# Altium schematic symbol library Bison-Board.SchLib: 70 symbols
Pins are listed as number, name and electrical type; pins without a type are passive.

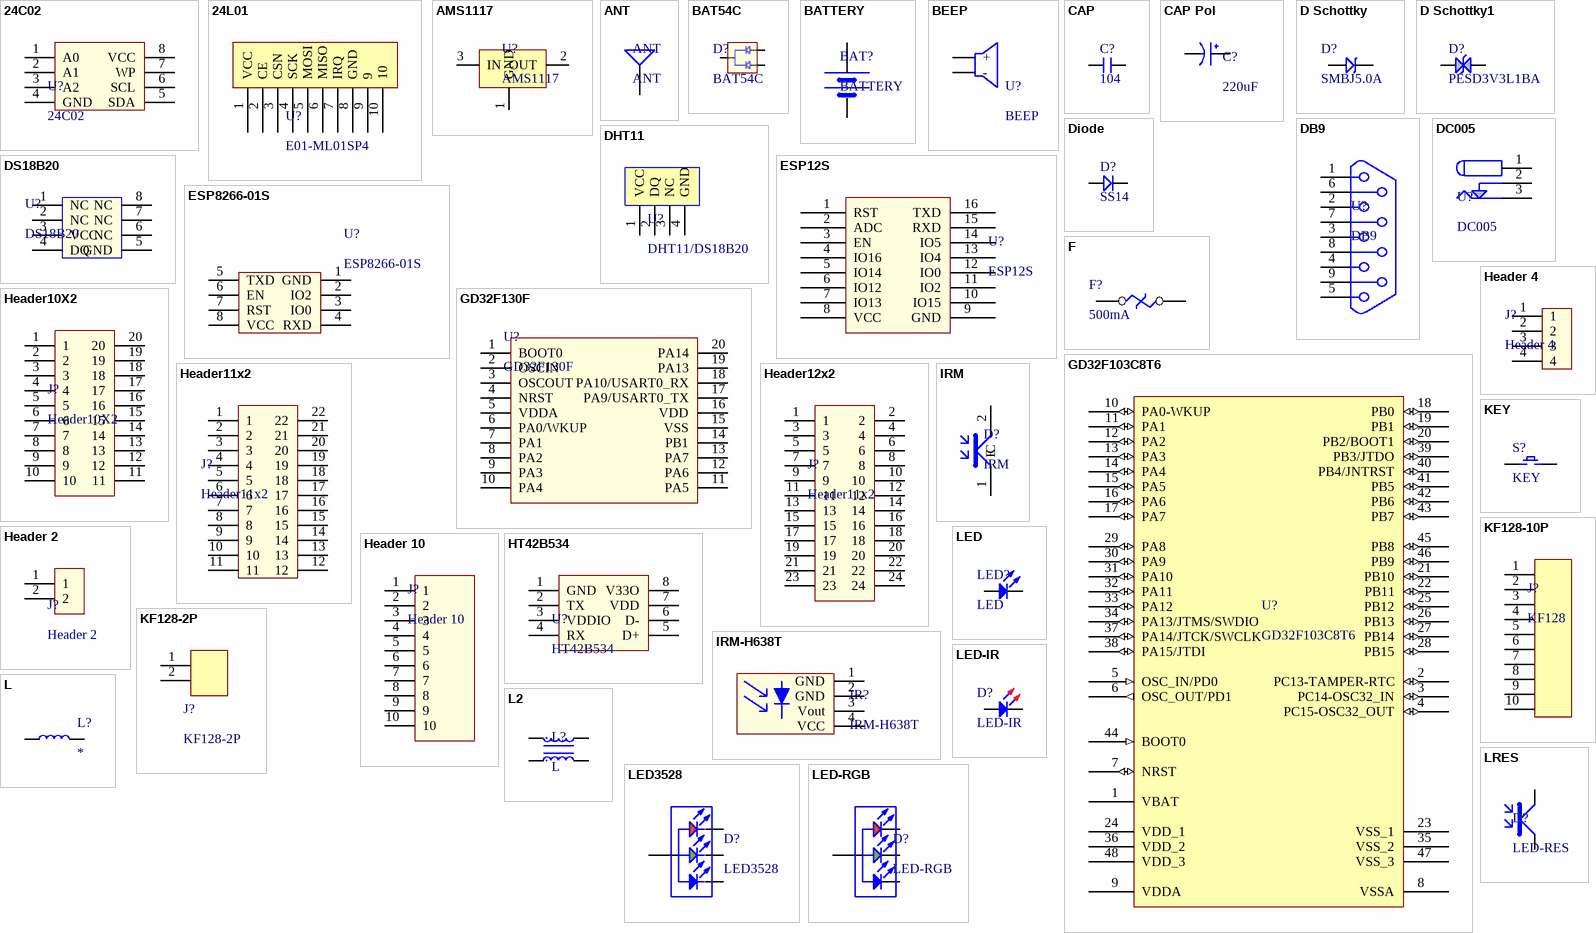
[diagram p0: symbols 24C02 to LRES]

## 24C02
designator U?
footprint SOP8
pins: 1 A0, 2 A1, 3 A2, 4 GND, 5 SDA, 6 SCL, 7 WP, 8 VCC

## 24L01
designator U?, comment E01-ML01SP4
2.4G无限模块
footprint E01-ML01SP4 (贴片24L01模块)
pins: 1 VCC, 2 CE, 3 CSN, 4 SCK, 5 MOSI, 6 MISO, 7 IRQ, 8 GND, 9, 10

## AMS1117
designator U?
LDO
footprint SOT223
pins: 1 GND, 2 OUT, 3 IN

## ANT
designator ANT
footprint ANT IPEX
footprint ANT-SMA-KE
footprint ANT-SMA-FR (SMA天线座90度)
pins: 1

## BAT54C
designator D?
footprint SOT23-3
pins: 1, 2, 3

## BATTERY
designator BAT?
footprint SBAT-1220
pins: 1 VCC, 2 GND

## BEEP
designator U?
footprint MLT-5020 (贴片蜂鸣器)
pins: 1 +, 2 -

## CAP
designator C?, comment 104
footprint C 0402
footprint C 0603
footprint C 0805
footprint C 1206
pins: 1, 2

## CAP Pol
designator C?, comment 220uF
极性电容
footprint CS 3.5*8*11.5 - C (脚距3.5mm , 直径8mm , 高11.5mm)
pins: 1 +, 2 -

## D Schottky
designator D?, comment SMBJ5.0A
footprint SMA
pins: 1, 2

## D Schottky1
designator D?, comment PESD3V3L1BA
双向TVS
footprint SOD323
pins: 1, 2

## DB9
designator U?
footprint DB9-MALE (DB9公头)
pins: 1, 2, 3, 4, 5, 6, 7, 8, 9

## DC005
designator U?
footprint DC005 (DC005座子)
pins: 1, 2, 3

## DHT11
designator U?, comment DHT11/DS18B20
footprint DHT11 (DHT11和DS18B20公用)
pins: 1 VCC, 2 DQ, 3 NC, 4 GND

## Diode
designator D?, comment SS14
footprint SMA
footprint SOD123
footprint SOD323
footprint LL34
pins: 1, 2

## DS18B20
designator U?
footprint SOP8
pins: 1 NC, 2 NC, 3 VCC, 4 DQ, 5 GND, 6 NC, 7 NC, 8 NC

## ESP12S
designator U?
WIFI模块
footprint ESP12S
pins: 1 RST, 2 ADC, 3 EN, 4 IO16, 5 IO14, 6 IO12, 7 IO13, 8 VCC, 9 GND, 10 IO15, 11 IO2, 12 IO0, 13 IO4, 14 IO5, 15 RXD, 16 TXD

## ESP8266-01S
designator U?
WIFI模块
footprint ESP8266-01S (WIFI模块)
pins: 1 GND, 2 IO2, 3 IO0, 4 RXD, 5 TXD, 6 EN, 7 RST, 8 VCC

## F
designator F?, comment 500mA
熔断开关
footprint F 0402
footprint F 0603
footprint F 0805
footprint F 1206
footprint F 1210
footprint F 1812
pins: 1, 2

## GD32F103C8T6
designator U?
footprint LQFP48 (7X7mm 0.5脚距)
pins: 1 VBAT (power), 2 PC13-TAMPER-RTC (io), 3 PC14-OSC32_IN (io), 4 PC15-OSC32_OUT (io), 5 OSC_IN/PD0 (in), 6 OSC_OUT/PD1 (out), 7 NRST (io), 8 VSSA (power), 9 VDDA (power), 10 PA0-WKUP (io), 11 PA1 (io), 12 PA2 (io), 13 PA3 (io), 14 PA4 (io), 15 PA5 (io), 16 PA6 (io), 17 PA7 (io), 18 PB0 (io), 19 PB1 (io), 20 PB2/BOOT1 (io), 21 PB10 (io), 22 PB11 (io), 23 VSS_1 (power), 24 VDD_1 (power), 25 PB12 (io), 26 PB13 (io), 27 PB14 (io), 28 PB15 (io), 29 PA8 (io), 30 PA9 (io), 31 PA10 (io), 32 PA11 (io), 33 PA12 (io), 34 PA13/JTMS/SWDIO (io), 35 VSS_2 (power), 36 VDD_2 (power), 37 PA14/JTCK/SWCLK (io), 38 PA15/JTDI (io), 39 PB3/JTDO (io), 40 PB4/JNTRST (io), 41 PB5 (io), 42 PB6 (io), 43 PB7 (io), 44 BOOT0 (in), 45 PB8 (io), 46 PB9 (io), 47 VSS_3 (power), 48 VDD_3 (power)

## GD32F130F
designator U?
footprint TSSOP20
pins: 1 BOOT0, 2 OSCIN, 3 OSCOUT, 4 NRST, 5 VDDA, 6 PA0/WKUP, 7 PA1, 8 PA2, 9 PA3, 10 PA4, 11 PA5, 12 PA6, 13 PA7, 14 PB1, 15 VSS, 16 VDD, 17 PA9/USART0_TX, 18 PA10/USART0_RX, 19 PA13, 20 PA14

## Header10X2
designator J?
footprint HDR2.54-M-LS-2x10P (2.54排母贴片)
footprint HDR2.54-LI-2x10P
pins: 1, 2, 3, 4, 5, 6, 7, 8, 9, 10, 11, 12, 13, 14, 15, 16, 17, 18, 19, 20

## Header11x2
designator J?
footprint HDR2.54-M-LS-2x10P - duplicate (2.54排母贴片)
pins: 1, 2, 3, 4, 5, 6, 7, 8, 9, 10, 11, 12, 13, 14, 15, 16, 17, 18, 19, 20, 21, 22

## Header12x2
designator J?, comment Header11x2
footprint HDR2.54-M-LS-2x12P
pins: 1, 2, 3, 4, 5, 6, 7, 8, 9, 10, 11, 12, 13, 14, 15, 16, 17, 18, 19, 20, 21, 22, 23, 24

## Header 2
designator J?
footprint XH2.54-WS-2P
footprint XH2.54-LI-2P
pins: 1, 2

## Header 4
designator J?
footprint XH2.54-LS-4P
footprint XH2.54-WS-4P
footprint XH2.54-LI-4P
pins: 1, 2, 3, 4

## Header 10
designator J?
footprint HEADER 10 (2.54mm 排针)
pins: 1, 2, 3, 4, 5, 6, 7, 8, 9, 10

## HT42B534
designator U?
USB转串口
footprint SOP8
pins: 1 GND, 2 TX, 3 VDDIO, 4 RX, 5 D+, 6 D-, 7 VDD, 8 V33O

## IRM
designator D?
红外接收管
footprint 3528-IR (3528-2P封装的红外接收管)
pins: 1 E, 2 C

## IRM-H638T
designator IR?
footprint IRM-H638T (红外接收)
pins: 1 GND, 2 GND, 3 Vout, 4 VCC

## KEY
designator S?
footprint KEY SMD-3*6*2.5
footprint DSW4.5*4.5 (贴片按键)
footprint KEY TSW SMD-6*6*6
footprint KEY-TC-153 (轻触开关 6x6x6 贴片)
pins: 1, 2

## KF128-2P
designator J?
footprint KF128-5.08-2P (螺钉式接线端子，脚距5.08mm)
pins: 1, 2

## KF128-10P
designator J?, comment KF128
footprint KF128-5.08-10P (螺钉式接线端子，脚距5.08mm)
pins: 1, 2, 3, 4, 5, 6, 7, 8, 9, 10

## L
designator L?
footprint L_SMNR3015
footprint L 0402
footprint L 0603
footprint L 0805
footprint L 1206
footprint L_SMNR4030
footprint L CDRH74 (贴片电感)
pins: 1, 2

## L2
designator L?, comment L
footprint L UU9.8 (共模电感17*12*17mm(长宽高）)
pins: 1, 2, 3, 4

## LED
designator LED?
footprint LED0603
footprint LED 3MM
pins: 1 A, 2 K

## LED3528
designator D?
footprint LED3528-4PIN
pins: 1 R, 2 +, 3 B, 4 G

## LED-IR
designator D?
footprint LED-IR (5mm红外发射二极管直插改侧贴)
footprint IR12-21C (侧贴红外发射管1206)
pins: 1 A, 2 K

## LED-RGB
designator D?
footprint LED-RGB (直插封装改侧贴式焊接)
pins: 1 COM, 2 R, 3 G, 4 B

## LRES
designator D?, comment LED-RES
光敏传感器
footprint LED 0805
pins: 1, 2

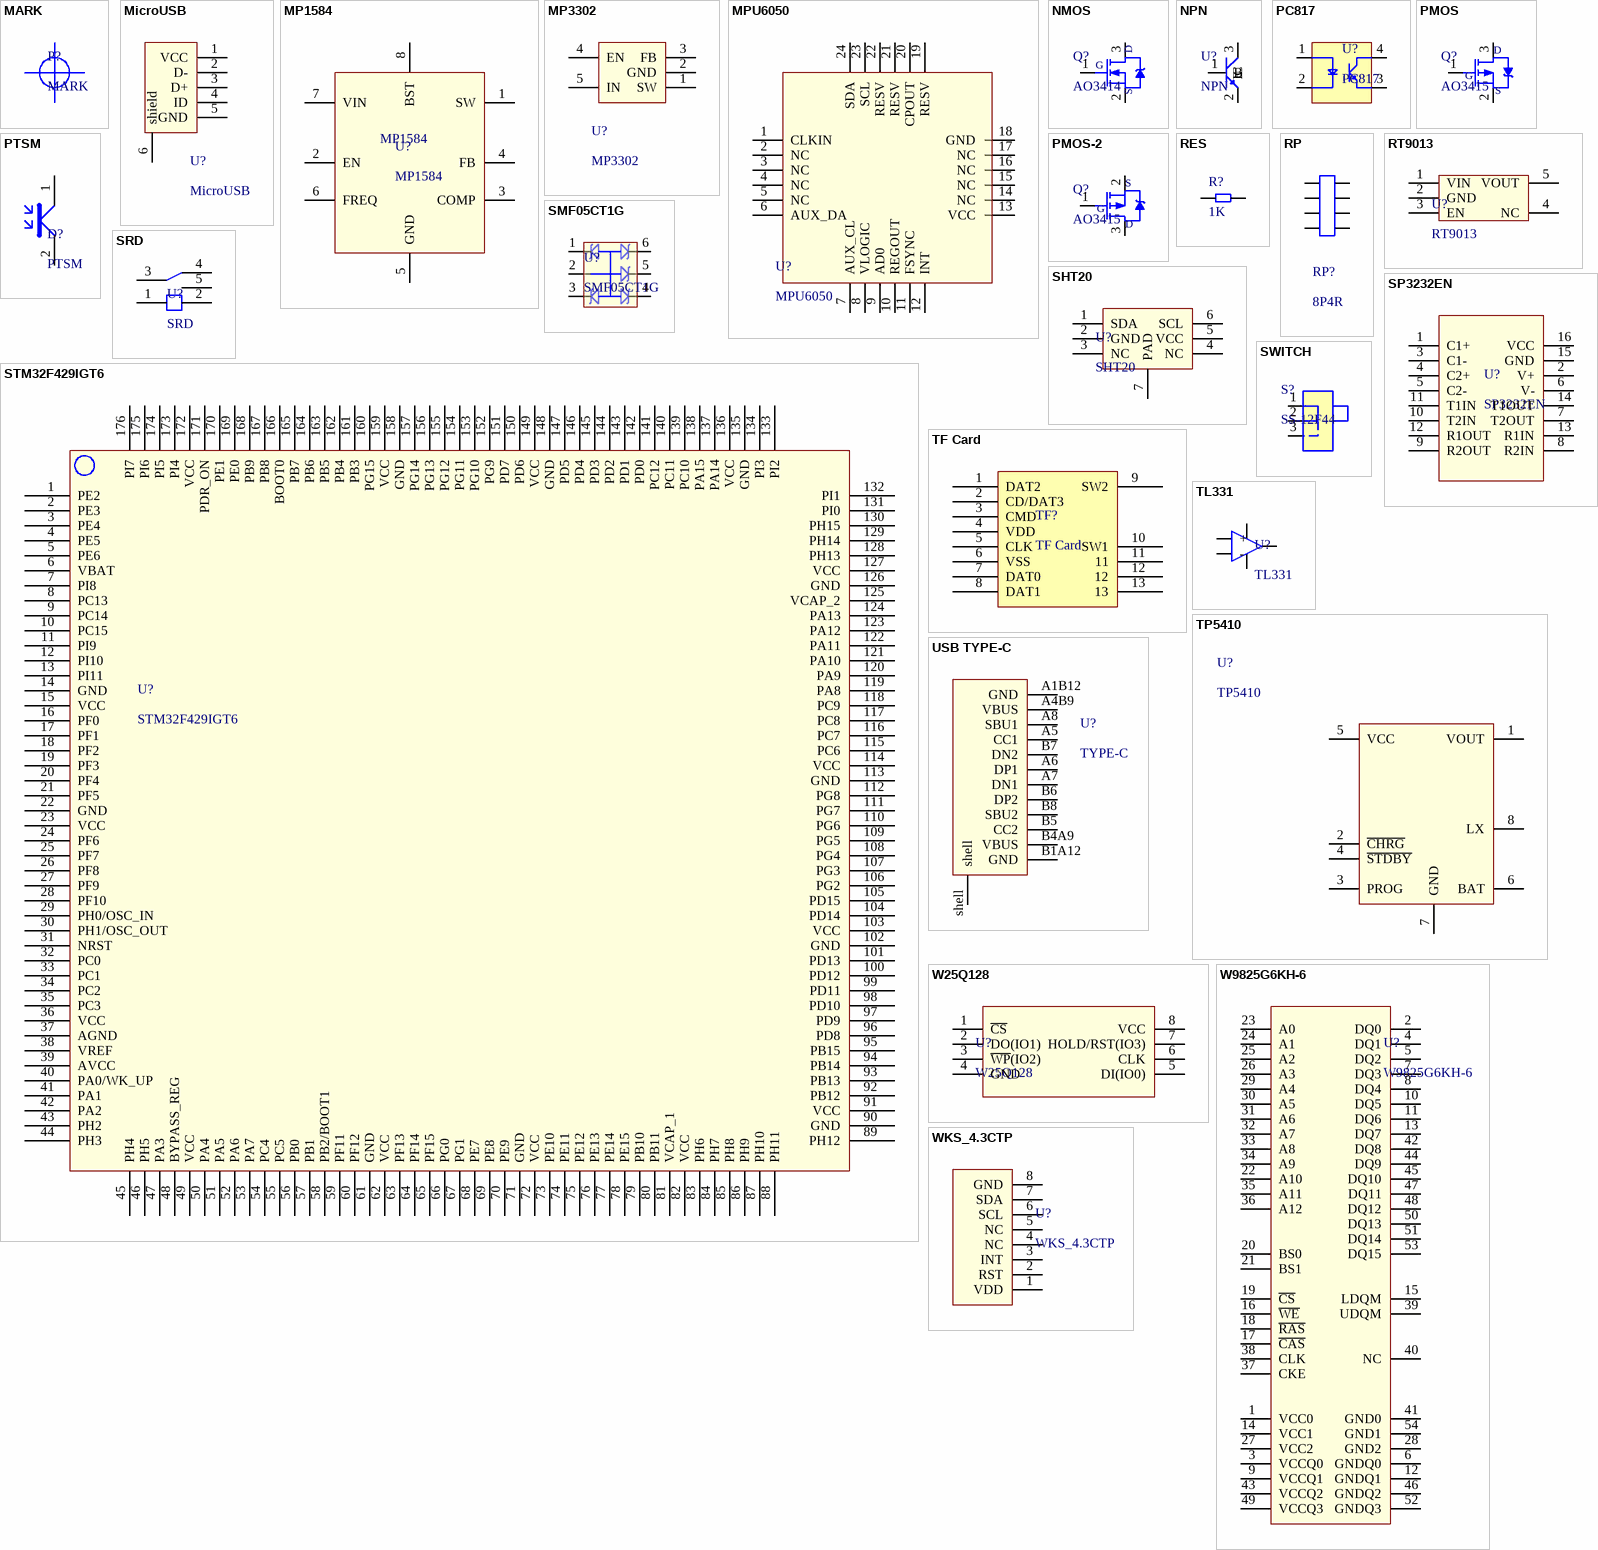
[diagram p1: symbols MARK to WKS_4.3CTP]

## MARK
designator P?
footprint MARK (SMT MARK点)

## MicroUSB
designator U?
footprint USB MicroUSB (牛角)
footprint USB MICROUSB-L
pins: 1 VCC, 2 D-, 3 D+, 4 ID, 5 GND, 6 shield

## MP1584
designator U?
DCDC芯片
footprint MP1584 SOP8 (底部焊盘连接GND)
pins: 1 SW, 2 EN, 3 COMP, 4 FB, 5 GND, 6 FREQ, 7 VIN, 8 BST

## MP3302
designator U?
LED驱动IC
footprint SOT23-5
pins: 1 SW, 2 GND, 3 FB, 4 EN, 5 IN

## MPU6050
designator U?
六轴姿态传感器
footprint QFN24 (4*4mm)
pins: 1 CLKIN, 2 NC, 3 NC, 4 NC, 5 NC, 6 AUX_DA, 7 AUX_CL, 8 VLOGIC, 9 AD0, 10 REGOUT, 11 FSYNC, 12 INT, 13 VCC, 14 NC, 15 NC, 16 NC, 17 NC, 18 GND, 19 RESV, 20 CPOUT, 21 RESV, 22 RESV, 23 SCL, 24 SDA

## NMOS
designator Q?, comment AO3414
footprint SOT23-3
pins: 1 G, 2 S, 3 D

## NPN
designator U?
footprint SOT23-3
pins: 1 B, 2 E, 3 C

## PC817
designator U?
光耦
footprint DIP4
footprint SMD-4 (光耦常用封装)
pins: 1, 2, 3, 4

## PMOS
designator Q?, comment AO3415
footprint SOT23-3
pins: 1 G, 2 S, 3 D

## PMOS-2
designator Q?, comment AO3415
footprint SOT23-3
pins: 1 G, 2 S, 3 D

## PTSM
designator D?
光环境传感器
footprint 3528-PTSM (3528-2P封装的光环境传感器)
pins: 1, 2

## RES
designator R?, comment 1K
footprint R 0402
footprint R 0603
footprint R 0805
footprint R 1206
pins: 1, 2

## RP
designator RP?, comment 8P4R
footprint 8P4R 0603
pins: 1, 2, 3, 4, 5, 6, 7, 8

## RT9013
designator U?
500mA低压差LDO
footprint SOT23-5
pins: 1 VIN, 2 GND, 3 EN, 4 NC, 5 VOUT

## SHT20
designator U?
I2C接口的温湿度传感器
footprint DFN-6 (3*3mm)
pins: 1 SDA, 2 GND, 3 NC, 4 NC, 5 VCC, 6 SCL, 7 PAD

## SMF05CT1G
designator U?
TVS
footprint SOT363
pins: 1, 2, 3, 4, 5, 6

## SP3232EN
designator U?
footprint TSSOP16
pins: 1 C1+, 2 V+, 3 C1-, 4 C2+, 5 C2-, 6 V-, 7 T2OUT, 8 R2IN, 9 R2OUT, 10 T2IN, 11 T1IN, 12 R1OUT, 13 R1IN, 14 T1OUT, 15 GND, 16 VCC

## SRD
designator U?
继电器
footprint SRD-C (继电器单刀双投)
pins: 1, 2, 3, 4, 5

## STM32F429IGT6
designator U?
footprint STM32F429IG (LQFP176 24*24)
pins: 1 PE2, 2 PE3, 3 PE4, 4 PE5, 5 PE6, 6 VBAT, 7 PI8, 8 PC13, 9 PC14, 10 PC15, 11 PI9, 12 PI10, 13 PI11, 14 GND, 15 VCC, 16 PF0, 17 PF1, 18 PF2, 19 PF3, 20 PF4, 21 PF5, 22 GND, 23 VCC, 24 PF6, 25 PF7, 26 PF8, 27 PF9, 28 PF10, 29 PH0/OSC_IN, 30 PH1/OSC_OUT, 31 NRST, 32 PC0, 33 PC1, 34 PC2, 35 PC3, 36 VCC, 37 AGND, 38 VREF, 39 AVCC, 40 PA0/WK_UP, 41 PA1, 42 PA2, 43 PH2, 44 PH3, 45 PH4, 46 PH5, 47 PA3, 48 BYPASS_REG, 49 VCC, 50 PA4, 51 PA5, 52 PA6, 53 PA7, 54 PC4, 55 PC5, 56 PB0, 57 PB1, 58 PB2/BOOT1, 59 PF11, 60 PF12, 61 GND, 62 VCC, 63 PF13, 64 PF14, 65 PF15, 66 PG0, 67 PG1, 68 PE7, 69 PE8, 70 PE9, 71 GND, 72 VCC, 73 PE10, 74 PE11, 75 PE12, 76 PE13, 77 PE14, 78 PE15, 79 PB10, 80 PB11, 81 VCAP_1, 82 VCC, 83 PH6, 84 PH7, 85 PH8, 86 PH9, 87 PH10, 88 PH11, 89 PH12, 90 GND, 91 VCC, 92 PB12, 93 PB13, 94 PB14, 95 PB15, 96 PD8, 97 PD9, 98 PD10, 99 PD11, 100 PD12, 101 PD13, 102 GND, 103 VCC, 104 PD14, 105 PD15, 106 PG2, 107 PG3, 108 PG4, 109 PG5, 110 PG6, 111 PG7, 112 PG8, 113 GND, 114 VCC, 115 PC6, 116 PC7, 117 PC8, 118 PC9, 119 PA8, 120 PA9, 121 PA10, 122 PA11, 123 PA12, 124 PA13, 125 VCAP_2, 126 GND, 127 VCC, 128 PH13, 129 PH14, 130 PH15, 131 PI0, 132 PI1, 133 PI2, 134 PI3, 135 GND, 136 VCC, 137 PA14, 138 PA15, 139 PC10, 140 PC11, 141 PC12, 142 PD0, 143 PD1, 144 PD2, 145 PD3, 146 PD4, 147 PD5, 148 GND, 149 VCC, 150 PD6, 151 PD7, 152 PG9, 153 PG10, 154 PG11, 155 PG12, 156 PG13, 157 PG14, 158 GND, 159 VCC, 160 PG15, 161 PB3, 162 PB4, 163 PB5, 164 PB6, 165 PB7, 166 BOOT0, 167 PB8, 168 PB9, 169 PE0, 170 PE1, 171 PDR_ON, 172 VCC, 173 PI4, 174 PI5, 175 PI6, 176 PI7

## SWITCH
designator S?, comment SS-12F44
footprint SW SS12F44 (直插开关改贴片)
footprint K3-1280S-L1 (贴片开关)
pins: 1, 2, 3

## TF Card
designator TF?
footprint TF Card
pins: 1 DAT2, 2 CD/DAT3, 3 CMD, 4 VDD, 5 CLK, 6 VSS, 7 DAT0, 8 DAT1, 9 SW2, 10 SW1, 11, 12, 13

## TL331
designator U?
电压比较器
footprint SOT23-5
pins: 1 -, 2 GND, 3 +, 4 OUT, 5 VCC

## TP5410
designator U?
footprint TP5410 (SOP8)
pins: 1 VOUT, 2 ~{CHRG}, 3 PROG, 4 ~{STDBY}, 5 VCC, 6 BAT, 7 GND, 8 LX

## USB TYPE-C
designator U?, comment TYPE-C
TYPE-C 16pin
footprint USB-TYPE-C (TYPE-C座子16PIN)
pins: A1B12 GND, A4B9 VBUS, A5 CC1, A6 DP1, A7 DN1, A8 SBU1, B1A12 GND, B4A9 VBUS, B5 CC2, B6 DP2, B7 DN2, B8 SBU2, shell

## W25Q128
designator U?
footprint SOIC-8-208mil
pins: 1 ~{CS}, 2 DO(IO1), 3 ~{WP}(IO2), 4 GND, 5 DI(IO0), 6 CLK, 7 HOLD/RST(IO3), 8 VCC

## W9825G6KH-6
designator U?
footprint TSOP54
pins: 1 VCC0, 2 DQ0, 3 VCCQ0, 4 DQ1, 5 DQ2, 6 GNDQ0, 7 DQ3, 8 DQ4, 9 VCCQ1, 10 DQ5, 11 DQ6, 12 GNDQ1, 13 DQ7, 14 VCC1, 15 LDQM, 16 ~{WE}, 17 ~{CAS}, 18 ~{RAS}, 19 ~{CS}, 20 BS0, 21 BS1, 22 A10, 23 A0, 24 A1, 25 A2, 26 A3, 27 VCC2, 28 GND2, 29 A4, 30 A5, 31 A6, 32 A7, 33 A8, 34 A9, 35 A11, 36 A12, 37 CKE, 38 CLK, 39 UDQM, 40 NC, 41 GND0, 42 DQ8, 43 VCCQ2, 44 DQ9, 45 DQ10, 46 GNDQ2, 47 DQ11, 48 DQ12, 49 VCCQ3, 50 DQ13, 51 DQ14, 52 GNDQ3, 53 DQ15, 54 GND1

## WKS_4.3CTP
designator U?
footprint FPC0.5-8P (下接翻盖式)
pins: 1 VDD, 2 RST, 3 INT, 4 NC, 5 NC, 6 SCL, 7 SDA, 8 GND

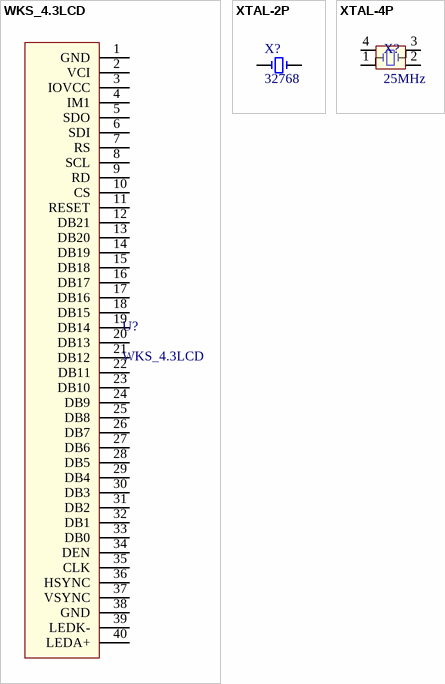
[diagram p2: symbols WKS_4.3LCD to XTAL-4P]

## WKS_4.3LCD
designator U?
footprint FPC0.5-40P (翻盖下接式)
pins: 1 GND, 2 VCI, 3 IOVCC, 4 IM1, 5 SDO, 6 SDI, 7 RS, 8 SCL, 9 RD, 10 CS, 11 RESET, 12 DB21, 13 DB20, 14 DB19, 15 DB18, 16 DB17, 17 DB16, 18 DB15, 19 DB14, 20 DB13, 21 DB12, 22 DB11, 23 DB10, 24 DB9, 25 DB8, 26 DB7, 27 DB6, 28 DB5, 29 DB4, 30 DB3, 31 DB2, 32 DB1, 33 DB0, 34 DEN, 35 CLK, 36 HSYNC, 37 VSYNC, 38 GND, 39 LEDK-, 40 LEDA+

## XTAL-2P
designator X?, comment 32768
footprint XTAL-2X6-LI
footprint XTAL-2X6-WS
footprint XTAL-3215
footprint XTAL-HC49S
pins: 1, 2

## XTAL-4P
designator X?, comment 25MHz
footprint XTAL-3225
pins: 1, 2, 3, 4